# Altium schematic symbol library KF128-2P.SchLib: 1 symbol
Pins are listed as number, name and electrical type; pins without a type are passive.

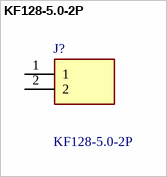
[diagram p0: symbol KF128-5.0-2P]

## KF128-5.0-2P
designator J?
10A 2 pin 5.0mm pitch PCB mount terminal block connector; Manufacturer_Name: CIXI KEFA ELECTRONICS; Geometry.Height: 14.6mm; Manufacturer_Part_Number: KF128-5.0-2P; Mouser Part Number: *; Mouser Price/Stock: *; Arrow Part Number: *; Arrow Price/Stock: *; Mouser Testing Part Number: *; Mouser Testing Price/Stock: *; Datasheet Link: http://jirorwxhqiillo5p.ldycdn.com/KF128-5.0-aidqqBpqKirRliSqmrqirlji.pdf
footprint KF128-2P
pins: 1, 2